# Altium footprint library HV9006_MEASUREBOARD.PCBLIB: 292 footprints (part 15 of 19)
Each footprint in its own frame and in the unit in brackets; x right, y up, seen from the top. Pads: shape width x height; smd on the part's side, far side on the other; paste and mask are expansions set on the pad; w line width, h text height; cw(c..) or ccw(c..) is an arc to the next point about the centre after c.
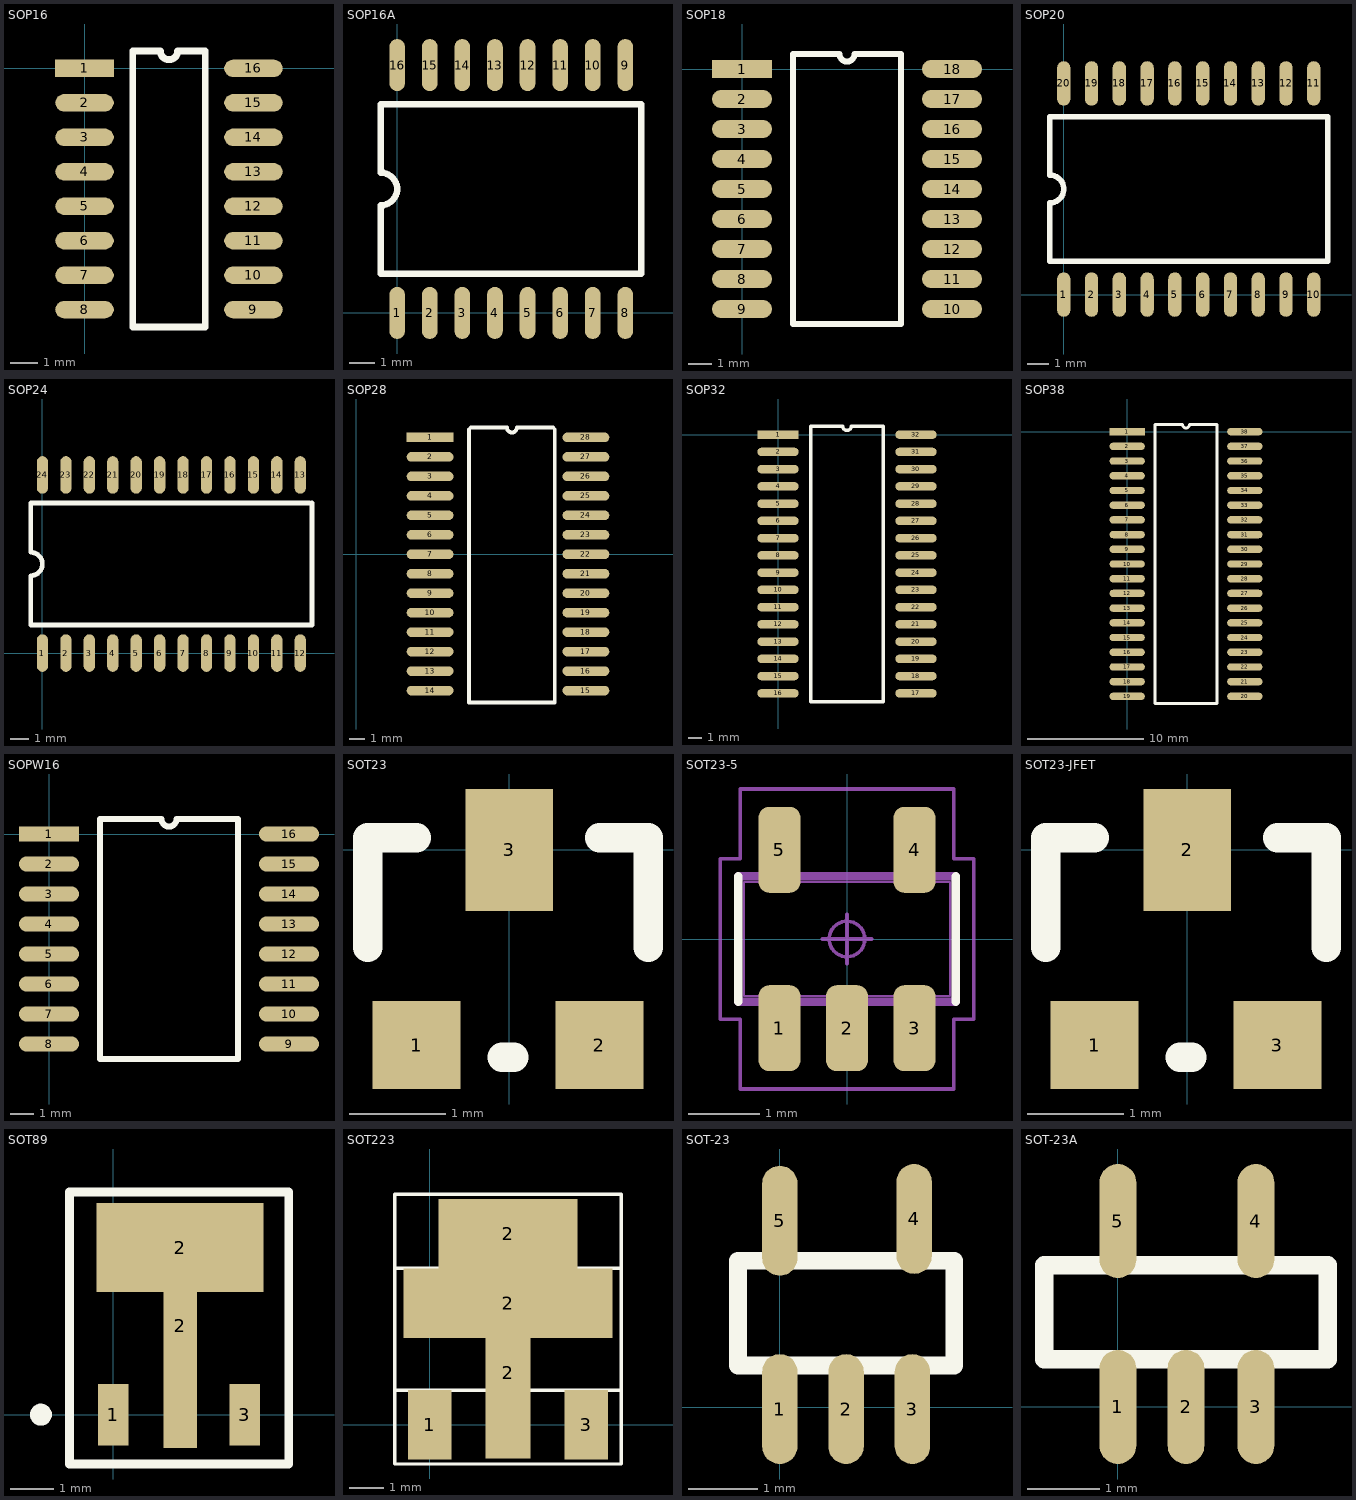
[diagram p14: the footprints below, top view; thin cyan lines are the x and y axes]

## SOP16 [mil]
pads (16):
  rect 85x25 smd: 1(0,0)
  oval 85x25 smd: 2(0,-50) 3(0,-100) 4(0,-150) 5(0,-200) 6(0,-250) 7(0,-300) 8(0,-350) 9(245,-350) 10(245,-300) 11(245,-250) 12(245,-200) 13(245,-150) 14(245,-100) 15(245,-50) 16(245,0)
Top Overlay:
  lines w10: 70,-375 175,-375 175,25 135,25 cw(c122.5,25) 110,25 70,25 70,-375

## SOP16A [mil]
pads (16):
  oval 24x80 smd: 1(0,0) 2(50,0) 3(100,0) 4(150,0) 5(200,0) 6(250,0) 7(300,0) 8(350,0) 9(350,380) 10(300,380) 11(250,380) 12(200,380) 13(150,380) 14(100,380) 15(50,380) 16(0,380)
Top Overlay:
  lines w10: -25,60 -25,165 ccw(c-25,190) -25,215 -25,320 374.61,320 374.61,60 -25,60

## SOP18 [mil]
pads (18):
  rect 100x30 smd: 1(0,0)
  oval 100x30 smd: 2(0,-50) 3(0,-100) 4(0,-150) 5(0,-200) 6(0,-250) 7(0,-300) 8(0,-350) 9(0,-400) 10(350,-400) 11(350,-350) 12(350,-300) 13(350,-250) 14(350,-200) 15(350,-150) 16(350,-100) 17(350,-50) 18(350,0)
Top Overlay:
  lines w10: 85,-425 85,25 162.5,25 ccw(c175,25) 187.5,25 265,25 265,-425 85,-425

## SOP20 [mil]
pads (20):
  oval 24x80 smd: 1(0,0) 2(50,0) 3(100,0) 4(150,0) 5(200,0) 6(250,0) 7(300,0) 8(350,0) 9(400,0) 10(450,0) 11(450,380) 12(400,380) 13(350,380) 14(300,380) 15(250,380) 16(200,380) 17(150,380) 18(100,380) 19(50,380) 20(0,380)
Top Overlay:
  lines w10: -25,60 -25,165 ccw(c-25,190) -25,215 -25,320 475,320 475,60 -25,60

## SOP24 [mil]
pads (24):
  oval 24x80 smd: 1(0,0) 2(50,0) 3(100,0) 4(150,0) 5(200,0) 6(250,0) 7(300,0) 8(350,0) 9(400,0) 10(450,0) 11(500,0) 12(550,0) 13(550,380) 14(500,380) 15(450,380) 16(400,380) 17(350,380) 18(300,380) 19(250,380) 20(200,380) 21(150,380) 22(100,380) 23(50,380) 24(0,380)
Top Overlay:
  lines w10: 570,320 -25,320 -25,215 cw(c-25,190) -25,165 -25,60 575,60 575,320

## SOP28 [mil]
pads (28):
  rect 120x25 smd: 1(190,300)
  oval 120x25 smd: 2(190,250) 3(190,200) 4(190,150) 5(190,100) 6(190,50) 7(190,0) 8(190,-50) 9(190,-100) 10(190,-150) 11(190,-200) 12(190,-250) 13(190,-300) 14(190,-350) 15(590,-350) 16(590,-300) 17(590,-250) 18(590,-200) 19(590,-150) 20(590,-100) 21(590,-50) 22(590,0) 23(590,50) 24(590,100) 25(590,150) 26(590,200) 27(590,250) 28(590,300)
Top Overlay:
  lines w10: 290,320 290,-380 510,-380 510,320 ; 295,325 387.5,325 ccw(c400,325) 412.5,325 505,325

## SOP32 [mil]
pads (32):
  rect 120x25 smd: 1(0,0)
  oval 120x25 smd: 2(0,-50) 3(0,-100) 4(0,-150) 5(0,-200) 6(0,-250) 7(0,-300) 8(0,-350) 9(0,-400) 10(0,-450) 11(0,-500) 12(0,-550) 13(0,-600) 14(0,-650) 15(0,-700) 16(0,-750) 17(400,-750) 18(400,-700) 19(400,-650) 20(400,-600) 21(400,-550) 22(400,-500) 23(400,-450) 24(400,-400) 25(400,-350) 26(400,-300) 27(400,-250) 28(400,-200) 29(400,-150) 30(400,-100) 31(400,-50) 32(400,0)
Top Overlay:
  lines w10: 95,-775 305,-775 305,25 212.5,25 cw(c200,25) 187.5,25 95,25 95,-775

## SOP38 [mil]
pads (38):
  rect 120x25 smd: 1(0,0)
  oval 120x25 smd: 2(0,-50) 3(0,-100) 4(0,-150) 5(0,-200) 6(0,-250) 7(0,-300) 8(0,-350) 9(0,-400) 10(0,-450) 11(0,-500) 12(0,-550) 13(0,-600) 14(0,-650) 15(0,-700) 16(0,-750) 17(0,-800) 18(0,-850) 19(0,-900) 20(400,-900) 21(400,-850) 22(400,-800) 23(400,-750) 24(400,-700) 25(400,-650) 26(400,-600) 27(400,-550) 28(400,-500) 29(400,-450) 30(400,-400) 31(400,-350) 32(400,-300) 33(400,-250) 34(400,-200) 35(400,-150) 36(400,-100) 37(400,-50) 38(400,0)
Top Overlay:
  lines w10: 95,-925 305,-925 305,25 212.5,25 cw(c200,25) 187.5,25 95,25 95,-925

## SOPW16 [mm]
pads (16):
  rect 2.54x0.635 smd: 1(0,0)
  oval 2.54x0.635 smd: 2(0,-1.27) 3(0,-2.54) 4(0,-3.81) 5(0,-5.08) 6(0,-6.35) 7(0,-7.62) 8(0,-8.89) 9(10.16,-8.89) 10(10.16,-7.62) 11(10.16,-6.35) 12(10.16,-5.08) 13(10.16,-3.81) 14(10.16,-2.54) 15(10.16,-1.27) 16(10.16,0)
Top Overlay:
  lines w0.254: 2.159,-9.525 2.159,0.635 4.763,0.635 ccw(c5.08,0.635) 5.397,0.635 8.001,0.635 8.001,-9.525 2.159,-9.525

## SOT23 [mil]
pads (3):
  rect 36x36 smd: 1(-38,-80) 2(37,-80)
  rect 36x50 smd: 3(0,0)
Top Overlay:
  lines w12: -58,-40 -58,5 -38,5 ; -3,-85 2,-85 ; 37,5 57,5 57,-40

## SOT23-5 [mm] "Small Outline Transistor (SOT23), 0.95 mm pitch; 5 pin, 2.90 mm L X 1.60 mm W X 1.45 mm H body"
height 1.45
pads (5):
  rrect51% 0.59x1.21 smd: 1(-0.95,-1.255) 2(0,-1.255) 3(0.95,-1.255) 4(0.95,1.255) 5(-0.95,1.255)
Top Overlay:
  lines w0.12: -1.53,-0.88 -1.53,0.88 ; 1.53,-0.88 1.53,0.88
Mechanical 11:
  lines w0.12: -1.53,-0.88 -1.53,0.88 1.53,0.88 1.53,-0.88 -1.53,-0.88
Mechanical 12:
  lines w0.025: -1.45,-0.8 -1.45,0.8 1.45,0.8 1.45,-0.8 -1.45,-0.8 ; -1.15,-1.4 -0.75,-1.4 -0.75,-0.95 -1.15,-0.95 -1.15,-1.4 ; -1.15,0.95 -0.75,0.95 -0.75,1.4 -1.15,1.4 -1.15,0.95 ; -0.2,-1.4 0.2,-1.4 0.2,-0.95 -0.2,-0.95 -0.2,-1.4 ; 0.75,-1.4 1.15,-1.4 1.15,-0.95 0.75,-0.95 0.75,-1.4 ; 0.75,0.95 1.15,0.95 1.15,1.4 0.75,1.4 0.75,0.95
Mechanical 15:
  circle w0.05: c0,0 r0.25
  lines w0.05: -0.35,0 0.35,0 ; 0,-0.35 0,0.35 ; -1.78,-1.13 -1.5,-1.13 -1.5,-2.11 1.5,-2.11 1.5,-1.13 1.78,-1.13 1.78,1.13 1.5,1.13 1.5,2.11 -1.5,2.11 -1.5,1.13 -1.78,1.13 -1.78,-1.13
Mechanical 16:
  text ".Designator" at 0,0 h1.2
3D body "DBV5.stp": height 1.45, standoff 0, extent -1.524,-1.499 1.524,1.499

## SOT23-JFET [mil]
pads (3):
  rect 36x36 smd: 1(-38,-80) 3(37,-80)
  rect 36x50 smd: 2(0,0)
Top Overlay:
  lines w12: -58,-40 -58,5 -38,5 ; -3,-85 2,-85 ; 37,5 57,5 57,-40

## SOT89 [mil]
pads (4):
  rect 27.56x55.12 smd: 1(0,0) 3(118.11,0)
  rect 30x220 smd: 2(60,80)
  rect 150x80 smd: 2(60,150)
Top Overlay:
  circle w9.84: c-64.96,0 r4.92
  lines w7.87: -39.37,-44.29 157.48,-44.29 157.48,199.8 -39.37,199.8 -39.37,-44.29

## SOT223 [mil]
pads (5):
  rect 50x80 smd: 1(0,0) 3(180,0)
  rect 51.18x196.85 smd: 2(90,60)
  rect 240x80 smd: 2(90,140)
  rect 160x80 smd: 2(90,220)
Top Overlay:
  lines w4: -40,40 220,40 ; -40,180 220,180 ; -40,-45 -40,265 220,265 220,-45 -40,-45

## SOT-23 [mil]
pads (5):
  oval 20x62 smd: 1(0,-0.98) 2(37.4,-0.98) 3(74.8,-0.98) 4(75.79,106.3) 5(0,105.31)
Top Overlay:
  lines w10: -23.62,23.62 98.43,23.62 98.43,82.68 -23.62,82.68 -23.62,23.62

## SOT-23A [mil]
pads (5):
  oval 20x62 smd: 1(0,0) 2(37,0) 3(75,0) 4(75,101) 5(0,101)
Top Overlay:
  lines w10: -40,26 114,26 114,77 -40,77 -40,26